# Altium footprint library IoT-A28LI V1.00.PcbLib: 55 footprints (part 3 of 4)
Each footprint in its own frame and in the unit in brackets; x right, y up, seen from the top. Pads: shape width x height; smd on the part's side, far side on the other; paste and mask are expansions set on the pad; w line width, h text height; cw(c..) or ccw(c..) is an arc to the next point about the centre after c.
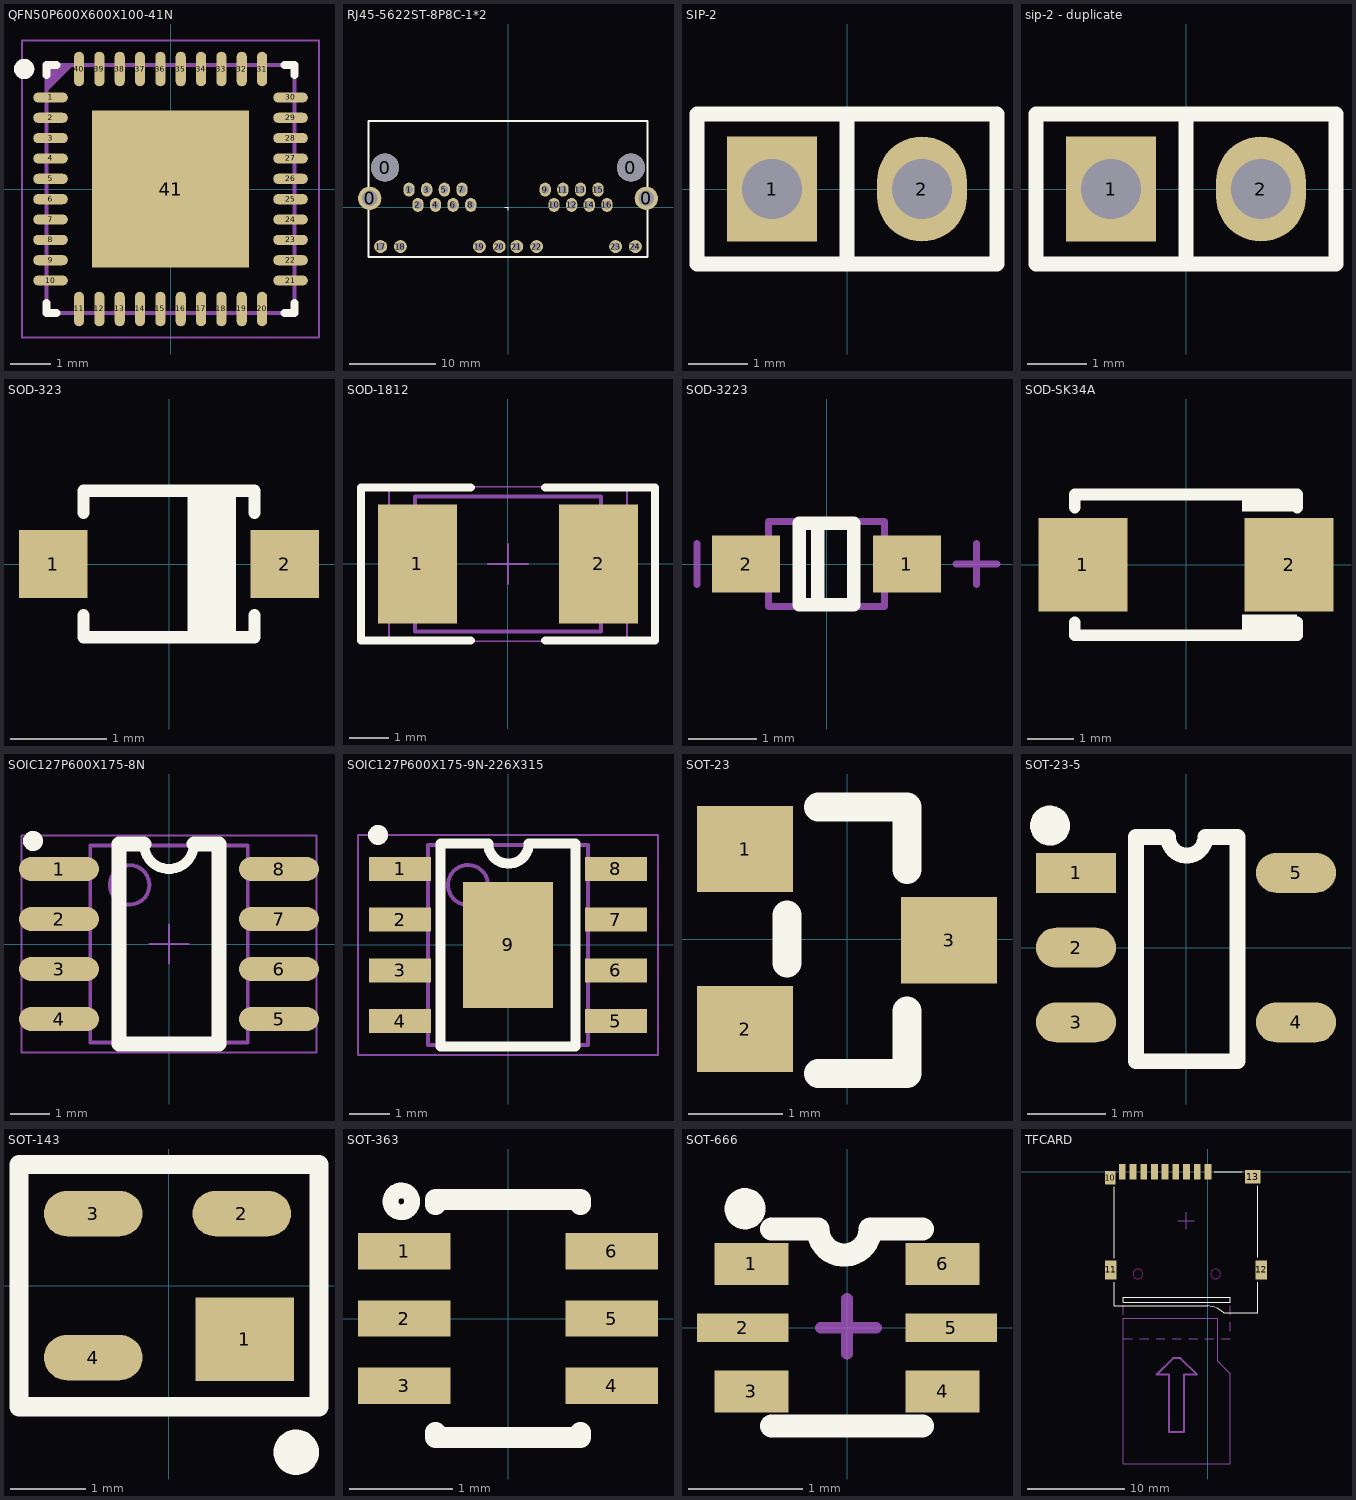
[diagram p2: the footprints below, top view; thin cyan lines are the x and y axes]

## QFN50P600X600X100-41N [mm]
pads (41):
  oval 0.85x0.25 smd: 1(-2.95,2.25) 2(-2.95,1.75) 3(-2.95,1.25) 4(-2.95,0.75) 5(-2.95,0.25) 6(-2.95,-0.25) 7(-2.95,-0.75) 8(-2.95,-1.25) 9(-2.95,-1.75) 10(-2.95,-2.25) 21(2.95,-2.25) 22(2.95,-1.75) 23(2.95,-1.25) 24(2.95,-0.75) 25(2.95,-0.25) 26(2.95,0.25) 27(2.95,0.75) 28(2.95,1.25) 29(2.95,1.75) 30(2.95,2.25)
  oval 0.25x0.85 smd: 11(-2.25,-2.95) 12(-1.75,-2.95) 13(-1.25,-2.95) 14(-0.75,-2.95) 15(-0.25,-2.95) 16(0.25,-2.95) 17(0.75,-2.95) 18(1.25,-2.95) 19(1.75,-2.95) 20(2.25,-2.95) 31(2.25,2.95) 32(1.75,2.95) 33(1.25,2.95) 34(0.75,2.95) 35(0.25,2.95) 36(-0.25,2.95) 37(-0.75,2.95) 38(-1.25,2.95) 39(-1.75,2.95) 40(-2.25,2.95)
  rect 3.85x3.85 smd: 41(0,0)
Top Overlay:
  circle w0.25: c-3.6,2.95 r0.125
  lines w0.2: -3.05,-2.8 -3.05,-3.05 -2.8,-3.05 ; -3.05,2.8 -3.05,3.05 -2.8,3.05 ; 2.8,-3.05 3.05,-3.05 3.05,-2.8 ; 2.8,3.05 3.05,3.05 3.05,2.8
Top Paste:
  region: -1.155,1.155 1.155,1.155 1.155,-1.155 -1.155,-1.155
Mechanical 15:
  lines w0.1: -3.05,2.45 -2.45,3.05 ; -3.05,2.55 -2.55,3.05 ; -3.05,2.65 -2.65,3.05 ; -3.05,2.75 -2.75,3.05 ; -3.05,2.85 -2.85,3.05 ; -3.05,2.95 -2.95,3.05 ; -3.05,-3.05 -3.05,3.05 3.05,3.05 3.05,-3.05 -3.05,-3.05
  text "1" at -0.164,-0.45 h0.75
Mechanical 16:
  lines w0.001: -3.05,-3.05 -3.05,3.05 3.05,3.05 3.05,-3.05 -3.05,-3.05
  lines w0.05: -0.5,0 0.5,0 ; 0,-0.5 0,0.5 ; -3.65,-3.65 -3.65,3.65 3.65,3.65 3.65,-3.65 -3.65,-3.65

## RJ45-5622ST-8P8C-1*2 [mm]
pads (28):
  round 2.7 hole 1.8: 0(-16,1.005) 0(16,1.005)
  round 3.25 hole 3.25: 0(-14.22,4.565) 0(14.22,4.565)
  oval 1.3x1.6 hole 0.9: 1(-11.445,2.025) 2(-10.425,0.245) 3(-9.405,2.025) 4(-8.385,0.245) 5(-7.365,2.025) 6(-6.345,0.245) 7(-5.325,2.025) 8(-4.305,0.245) 9(4.305,2.025) 10(5.325,0.245) 11(6.345,2.025) 12(7.365,0.245) 13(8.385,2.025) 14(9.405,0.245) 15(10.425,2.025) 16(11.445,0.245)
  round 1.5 hole 0.9: 17(-14.735,-4.565) 18(-12.445,-4.565) 19(-3.305,-4.565) 20(-1.015,-4.565) 21(1.015,-4.565) 22(3.305,-4.565) 23(12.445,-4.565) 24(14.735,-4.565)
Top Overlay:
  lines w0.127: -0.381,0 0,0 0,-0.381
  lines w0.254: -16.125,-5.785 16.125,-5.785 16.125,9.965 -16.125,9.965 -16.125,-5.785

## SIP-2 [mil]
pads (2):
  rect 60x70 hole 40: 1(-50,0)
  oval 60x70 hole 40: 2(50,0)
Top Overlay:
  lines w10: 0,-50 0,50 ; -100,-50 -100,50 100,50 100,-50 -100,-50
3D body: height 298.43, standoff -115.75, extent -100,-50 0,50
3D body: height 298.43, standoff -115.75, extent 0,-50 100,50

## sip-2 - duplicate [mil]
pads (2):
  rect 60x70 hole 40: 1(-50,0)
  oval 60x70 hole 40: 2(50,0)
Top Overlay:
  lines w10: 0,-50 0,50 ; -100,-50 -100,50 100,50 100,-50 -100,-50
3D body: height 298.43, standoff -115.75, extent -100,-50 0,50
3D body: height 298.43, standoff -115.75, extent 0,-50 100,50

## SOD-323 [mil]
pads (2):
  rect 28x28 smd: 1(-47.5,0) 2(47.5,0)
Top Overlay:
  lines w5: -35,-21 -35,-30 35,-30 35,-21 ; -35,21 -35,30 35,30 35,21 ; 10,-30 10,30 ; 15,-30 15,30 ; 20,-30 20,30 ; 25,-30 25,30
3D body: height 39.37, standoff 0, extent -51,-26 51.36,25.18

## SOD-1812 [mm]
pads (2):
  rect 2x3 smd: 1(-2.286,0) 2(2.286,0)
Top Overlay:
  lines w0.203: -3.2,1.93 -0.94,1.93 -3.708,1.93 -3.708,-1.93 -0.94,-1.93 ; 0.94,-1.93 3.708,-1.93 3.708,1.93 0.94,1.93
Mechanical 15:
  lines w0.1: -2.35,-1.7 2.35,-1.7 2.35,1.7 -2.35,1.7 -2.35,-1.7
  text "1" at -0.178,-0.356 h0.75
Mechanical 16:
  lines w0.001: -2.35,-1.7 2.35,-1.7 2.35,1.7 -2.35,1.7 -2.35,-1.7
  lines w0.05: -0.5,0 0.5,0 ; 0,-0.5 0,0.5 ; -3,-1.95 3,-1.95 3,1.95 -3,1.95 -3,-1.95

## SOD-3223 [mm] "PESD5V0S1BA"
height 10
pads (2):
  rect 1x0.83 smd: 1(1.18,0) 2(-1.18,0)
Top Overlay:
  lines w0.2: -0.13,-0.6 -0.13,0.6 ; -0.4,-0.6 -0.4,0.6 0.4,0.6 0.4,-0.6 -0.4,-0.6
Mechanical 13:
  lines w0.1: -0.85,-0.625 -0.85,0.625 0.85,0.625 0.85,-0.625 -0.85,-0.625
Mechanical 15:
  lines w0.1: -1.9,-0.3 -1.9,0.3 ; 1.9,0 2.5,0 ; 2.2,-0.3 2.2,0.3
3D body: height 1.1, standoff 0, extent -1.35,-0.625 1.35,0.625

## SOD-SK34A [mil]
pads (2):
  rect 76x80 smd: 1(-88,0) 2(88,0)
Top Overlay:
  rectangle: 47.77,-58.54 94.77,-42.54
  rectangle: 47.77,45.46 94.77,61.46
  lines w10: -95,-49 -95,-60 95,-60 95,-49 ; -95,49 -95,60 95,60 95,49
3D body: height 94.49, standoff 0, extent -91.52,-53.55 89.58,52.75

## SOIC127P600X175-8N [mil]
pads (8):
  oval 80x24 smd: 1(-110,75) 2(-110,25) 3(-110,-25) 4(-110,-75) 5(110,-75) 6(110,-25) 7(110,25) 8(110,75)
Top Overlay:
  circle w10: c-136,103 r5
  lines w10: -25,100 ccw(c0,100) 25,100
  lines w15: -25,100 -50,100 -50,-100 50,-100 50,100 25,100
Mechanical 15:
  circle w3.94: c-39.37,59.06 r19.68
  lines w3.94: -78.74,-98.43 -78.74,98.43 78.74,98.43 78.74,-98.43 -78.74,-98.43
  text "1" at 17.71,-6.47 h29.53
Mechanical 16:
  lines w0.04: -78.74,-98.43 -78.74,98.43 78.74,98.43 78.74,-98.43 -78.74,-98.43
  lines w1.97: -19.68,0 19.68,0 ; 0,-19.68 0,19.68 ; -147.64,-108.27 -147.64,108.27 147.64,108.27 147.64,-108.27 -147.64,-108.27
3D body: height 61.02, standoff -1.97, extent -117.91,-96 117.91,96.91

## SOIC127P600X175-9N-226X315 [mm]
pads (9):
  rect 1.55x0.6 smd: 1(-2.7,1.905) 2(-2.7,0.635) 3(-2.7,-0.635) 4(-2.7,-1.905) 5(2.7,-1.905) 6(2.7,-0.635) 7(2.7,0.635) 8(2.7,1.905)
  rect 2.26x3.15 smd: 9(0,0)
Top Overlay:
  circle w0.25: c-3.25,2.75 r0.125
  lines w0.254: -1.689,-2.54 1.689,-2.54 1.689,2.54 0.521,2.54 cw(c0.013,2.54) -0.495,2.54 -1.689,2.54 -1.689,-2.54
Mechanical 15:
  circle w0.1: c-1,1.5 r0.5
  lines w0.1: -2,-2.5 2,-2.5 2,2.5 -2,2.5 -2,-2.5
  text "1" at 0.45,-0.164 h0.75
Mechanical 16:
  lines w0.001: -2,-2.5 2,-2.5 2,2.5 -2,2.5 -2,-2.5
  lines w0.05: -0.5,0 0.5,0 ; 0,-0.5 0,0.5 ; -3.75,-2.75 3.75,-2.75 3.75,2.75 -3.75,2.75 -3.75,-2.75
3D body: height 1.55, standoff -0.05, extent -2.995,-2.438 2.995,2.462

## SOT-23 [mil]
pads (3):
  rect 40x36 smd: 1(-42.5,37.5) 2(-42.5,-37.5) 3(42.5,-0.5)
Top Overlay:
  lines w12: -25,-10 -25,10 ; -12,-56 25,-56 25,-30 ; -12,55 25,55 25,29
3D body: height 39.37, standoff -0.79, extent -47,-57.48 50.48,57.48

## SOT-23-5 [mil]
pads (5):
  rect 40x20 smd: 1(-55,37.4)
  oval 40x20 smd: 2(-55,0) 3(-55,-37.4) 4(55,-37.4) 5(55,37.4)
Top Overlay:
  circle w10: c-68,61 r5
  lines w7.87: -25,55.4 -25,-56.8 25.7,-56.8 25.7,55.4 ; -9,55.4 ccw(c0.35,55.4) 9.7,55.4
  lines w8: -25,55.4 -9,55.4 ; 9.7,55.4 25.7,55.4
3D body: height 42.79, standoff -0.51, extent -55.16,-57.06 55.09,57.09

## SOT-143 [mm]
height 10
pads (4):
  rect 1.3x1.1 smd: 1(1,-0.71)
  oval 1.3x0.6 smd: 2(0.96,0.95) 3(-1,0.95) 4(-1,-0.95)
Top Overlay:
  circle w0.3: c1.68,-2.2 r0.15
  lines w0.254: -1.98,-1.6 1.98,-1.6 1.98,1.6 -1.98,1.6 -1.98,-1.6
3D body: height 1, standoff 0, extent -1.23,-1.46 1.19,1.46

## SOT-363 [mm]
pads (6):
  rect 0.896x0.35 smd: 1(-1.002,0.65) 2(-1.002,0) 3(-1.002,-0.65) 4(1.002,-0.65) 5(1.002,0) 6(1.002,0.65)
Top Overlay:
  circle w0.152: c-1.031,1.133 r0.105
  lines w0.2: -0.7,-1.1 -0.7,-1.15 0.7,-1.15 0.7,-1.1 ; -0.7,1.1 -0.7,1.15 0.7,1.15 0.7,1.1
3D body: height 1, standoff 0, extent -1.15,-1.041 1.15,1.059

## SOT-666 [mil]
pads (6):
  rect 25.59x14.47 smd mask+3: 1(-33,22) 3(-33,-22) 4(33,-22) 6(33,22)
  rect 31.5x9.84 smd mask+3: 2(-36,0) 5(36,0)
Top Overlay:
  circle w7.87: c-35.16,41 r3.16
  lines w8: -26,-34 26,-34 ; -26,34 -10,34 ccw(c-1,34) 8,34 26,34
Mechanical 15:
  lines w4: -9,0 10,0 ; 0,-9 0,10

## TFCARD [mm]
pads (13):
  rect 0.7x1.6 smd: 1(0,0) 2(-1.1,0) 3(-2.2,0) 4(-3.3,0) 5(-4.4,0) 6(-5.5,0) 7(-6.6,0) 8(-7.7,0) 9(-8.8,0)
  rect 1.1x1.4 smd: 10(-10.05,-0.6)
  rect 1.2x2 smd: 11(-10,-10.1) 12(5.5,-10.1)
  rect 1.6x1.4 smd: 13(4.6,-0.5)
Top Overlay:
  lines w0.127: -9.625,-11.349 -9.625,-13.8 -0.625,-13.8 -0.065,-13.8 cw(c-0.065,-16.19) 1.625,-14.5 5.125,-14.5 5.125,-11.375 ; -9.625,-8.885 -9.625,-1.545 ; 0.646,0 3.541,0 ; 5.125,-8.809 5.125,-1.443 ; -8.7,-13.407 2.3,-13.407 2.3,-12.924 -8.7,-12.924 -8.7,-13.407
Keep-Out Layer:
  circle w0.127: c0.8,-10.5 r0.5
  circle w0.127: c-7.2,-10.5 r0.5
Mechanical 15:
  lines w0.127: -8.698,-16.388 -8.698,-15.469 ; -8.698,-14.712 -8.698,-13.792 ; -8.686,-17.145 -7.767,-17.145 ; -7.01,-17.145 -6.09,-17.145 ; -5.333,-17.145 -4.414,-17.145 ; -3.657,-17.145 -2.737,-17.145 ; -3.114,-5.05 -2.25,-5.05 ; -2.25,-5.914 -2.25,-5.05 ; -2.25,-4.186 -2.25,-5.05 ; -1.981,-17.145 -1.061,-17.145 ; -1.386,-5.05 -2.25,-5.05 ; -0.304,-17.145 0.615,-17.145 ; 1.372,-17.145 2.292,-17.145 ; 2.292,-16.388 2.292,-15.469 ; 2.292,-14.712 2.292,-13.792 ; -8.698,-30.05 -8.698,-15.05 1.002,-15.05 1.002,-19.495 2.302,-20.795 2.302,-30.05 -8.698,-30.05
  lines w0.203: -5.283,-20.861 -3.988,-20.861 -3.988,-26.754 -2.438,-26.754 -2.438,-20.836 -1.143,-20.836 -2.819,-19.159 -3.581,-19.159 -5.283,-20.861
3D body: height 2, standoff 0, extent -9.625,-14.5 5.125,0